# Altium footprint library AMMAP003.PcbLib: 2 footprints
Each footprint in its own frame and in the unit in brackets; x right, y up, seen from the top. Pads: shape width x height; smd on the part's side, far side on the other; paste and mask are expansions set on the pad; w line width, h text height; cw(c..) or ccw(c..) is an arc to the next point about the centre after c.
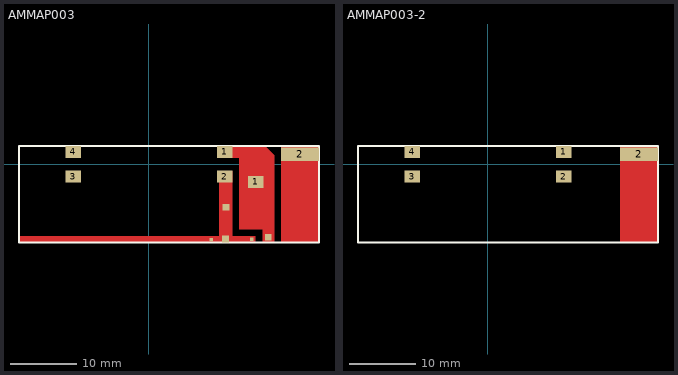
[diagram p0: the footprints below, top view; thin cyan lines are the x and y axes]

## AMMAP003 [mm]
pads (11):
  rect 2.3x1.8 smd: 1(11.35,1.85) 1(16,-2.625) 2(11.35,-1.85) 3(-11.35,-1.85) 4(-11.35,1.85)
  rect 1x1 smd: 1(17.9,-10.95) 2(11.475,-11.2) 2(11.55,-6.45)
  rect 0.5x0.5 smd: 2(9.35,-11.3) 2(15.425,-11.25)
  rect 5.7x2 smd: 2(22.65,1.475)
Top Layer:
  rectangle: 17,-11.75 18.8,-8.7
  rectangle: 19.8,-10.75 25.5,2.725
  rectangle: -19.5,-11.75 16,-10.75
  rectangle: 11.7,0.95 13.9,2.75
  rectangle: 10.5,-11 12.5,-1
  rectangle: 17,-10.75 18.8,-9.75
  rectangle: 19.8,-11.75 25.5,-10.75
  region: 13.5,2.725 17.4,2.725 18.8,1.325 18.8,-9.75 13.5,-9.75 13.5,-0.4
Top Overlay:
  lines w0.254: -19.5,-11.75 25.5,-11.75 25.5,2.75 -19.5,2.75 -19.5,-10.75 -19.5,-11.75
3D body "AMMAP003.STEP": height 4.45, standoff 0, extent -12,-2.75 12,2.75

## AMMAP003-2 [mm]
pads (5):
  rect 2.3x1.8 smd: 1(11.35,1.85) 2(11.35,-1.85) 3(-11.35,-1.85) 4(-11.35,1.85)
  rect 5.7x2 smd: 2(22.65,1.475)
Top Layer:
  rectangle: 19.8,-10.75 25.5,2.725
  rectangle: 19.8,-11.75 25.5,-10.75
Top Overlay:
  lines w0.254: -19.5,-11.75 25.5,-11.75 25.5,2.75 -19.5,2.75 -19.5,-10.75 -19.5,-11.75
3D body "AMMAP003.STEP": height 4.45, standoff 0, extent -12,-2.75 12,2.75